# Altium footprint library PCB_components.PcbLib: 2 footprints
Each footprint in its own frame and in the unit in brackets; x right, y up, seen from the top. Pads: shape width x height; smd on the part's side, far side on the other; paste and mask are expansions set on the pad; w line width, h text height; cw(c..) or ccw(c..) is an arc to the next point about the centre after c.
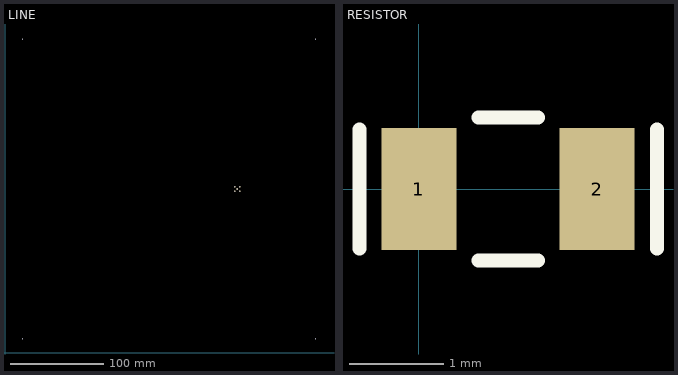
[diagram p0: the footprints below, top view; thin cyan lines are the x and y axes]

## LINE [mm]
pads (9):
  round 0.6 hole 0.3: 1(18.5,15) 1(18.5,335) 1(331.5,15) 1(331.5,335)
  rrect50% 1.7x1.7 hole 1.4: 1(247.925,175)
  round 1.7 hole 1.4: 2(245.385,172.46) 2(245.385,177.54) 2(250.465,172.46) 2(250.465,177.54)
Mid-Layer 1:
  region: 215 vertices and 0 holes, not listed, extent 18.27,14.77 331.73,335.23

## RESISTOR [mm]
pads (2):
  rect 0.8x1.3 smd: 1(0,0) 2(1.9,0)
Top Overlay:
  lines w0.15: -0.635,-0.635 -0.635,0.635 ; 0.635,-0.762 1.27,-0.762 ; 0.635,0.762 1.27,0.762 ; 2.54,-0.635 2.54,0.635
3D body "SMD_RLC_0805.STEP": height 0.43, standoff -0.02, extent -0.046,-0.625 1.954,0.625